# EAGLE library part USB-2.0-DUAL (library ds_con)
WR-COM USB 2.0 Type A Horizontal Dual Stacked Kind Properties Durability:1 500 Mating cycles Quality Class:1 500 Mating cycles Connector Type:USB Gender:Receptacle Type:Stacked Horizontal General Information Operating Temperature:-40up to +105 °C Compliance:RoHS Electrical Properties IR 1:1.5 A Working Voltage:30V (AC) Withstanding Voltage:750 V (AC) Contact Resistance:20 mΩ Material Properties Insulator Material:PBT Insulator Flammability Rating:UL94 V-0 Color:White Cover Material:Brass Cover Plating:Nickel Contact Material:Copper Alloy Contact Plating:Selective Gold Contact Type:Stamped Shielding Material:Brass Shielding Plating:Nickel <https://www.we-online.com/catalog/media/o32989v209%20Family_WR-COM_61400826021.jpg> Details see: https://www.we-online.com/catalog/en/COM_TYPE_A_HORIZONTAL_DUAL_STACKED/ Updated by Yingchun, Shan 2020-01-14 2020 (C) Würth Elektronik
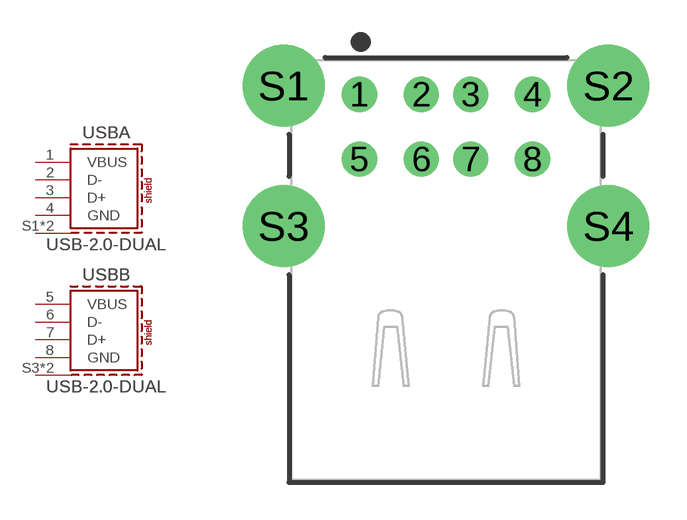
[diagram p43: symbol with the pads of USB-2.0-DUAL; footprint USB-2.0-DUAL]

Designator prefix USB; gates A=USB2.0_TYPEA B=USB2.0_TYPEA

## USB-2.0-DUAL (DATASHEET: https://www.we-online.com/redexpert/spec/61400826021?ae; DESCRIPTION: -25℃~+85℃ 1.5A 17.6mm 2 30V 4Px2 5,000 Cycles Female Right Angle Type-A USB 2.0 White Push-Pull USB Connectors ROHS; HQ_PART: CO0894741; LCSC_PART: C456021; MANUFACTURER: Würth Elektronik; MPN: 61400826021; ROHS: YES; VALUE: USB 2.0)  [USB-2.0-DUAL]
1  A:VBUS  pas
2  A:D-  pas
3  A:D+  pas
4  A:GND  pas
5  B:VBUS  pas
6  B:D-  pas
7  B:D+  pas
8  B:GND  pas
S1  A:SHIELD  pas
S2  A:SHIELD  pas
S3  B:SHIELD  pas
S4  B:SHIELD  pas

## Footprint USB-2.0-DUAL (pad centres in mm)
WR-COM USB 2.0 Type A Horizontal Dual Stacked
drill 0.92: 1 -3.5,7.11; 2 -1,7.11; 3 1,7.11; 4 3.5,7.11; 5 -3.5,4.49; 6 -1,4.49; 7 1,4.49; 8 3.5,4.49
drill 2.3: S1 -6.57,7.46; S2 6.57,7.46; S3 -6.57,1.78; S4 6.57,1.78